# Altium schematic symbol library Schlib.SchLib: 1 symbol
Pins are listed as number, name and electrical type; pins without a type are passive.

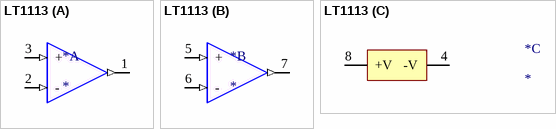
[diagram p0: symbol LT1113]

## LT1113
designator *
LT1113 Opamp
footprint SO8_L (Footprint not found)
part A pins: 1 OUTA (out), 2 - (in), 3 + (in)
part B pins: 5 + (in), 6 - (in), 7 OUTA (out)
part C pins: 4 -V (power) "V-", 8 +V (power)